# EAGLE library part MICROCHIP_TECHNOLOGIES-CLOCK_GENERATOR-PL611-01-N12MC (library Module_ICs)
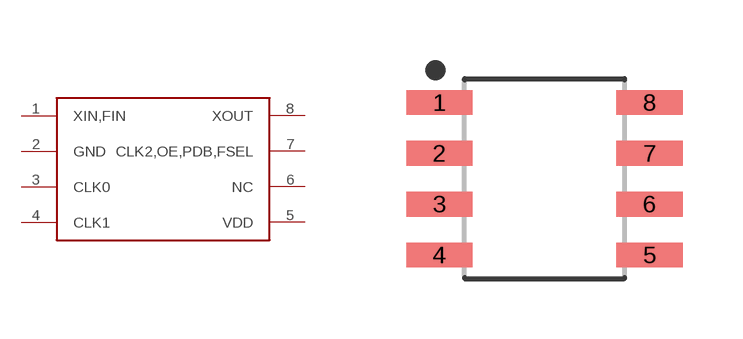
[diagram p46: symbol with the pads of MICROCHIP_TECHNOLOGIES-CLOCK_GENERATOR-PL611-01-N12MC; footprint MICROCHIP_TECHNOLOGIES-CLOCK_GENERATOR-PL611-01-N12MC]

Designator prefix U

## MICROCHIP_TECHNOLOGIES-CLOCK_GENERATOR-PL611-01-N12MC  [MICROCHIP_TECHNOLOGIES-CLOCK_GENERATOR-PL611-01-N12MC]
1  XIN,FIN
2  GND
3  CLK0
4  CLK1
5  VDD
6  NC
7  CLK2,OE,PDB,FSEL
8  XOUT

## Footprint MICROCHIP_TECHNOLOGIES-CLOCK_GENERATOR-PL611-01-N12MC (pad centres in mm)
8-SOIC, 1.27 mm pitch, 6.00 mm span, 4.90 X 3.90 X 1.75 mm body 8-pin SOIC package with 1.27 mm pitch, 6.00 mm span with body size 4.90 X 3.90 X 1.75 mm
smd 1.657 x 0.619: 1 -2.629,1.905; 2 -2.629,0.635; 3 -2.629,-0.635; 4 -2.629,-1.905; 5 2.629,-1.905; 6 2.629,-0.635; 7 2.629,0.635; 8 2.629,1.905